# Altium footprint library Dallas Semiconductor Footprints.PcbLib: 181 footprints (part 3 of 12)
Each footprint in its own frame and in the unit in brackets; x right, y up, seen from the top. Pads: shape width x height; smd on the part's side, far side on the other; paste and mask are expansions set on the pad; w line width, h text height; cw(c..) or ccw(c..) is an arc to the next point about the centre after c.
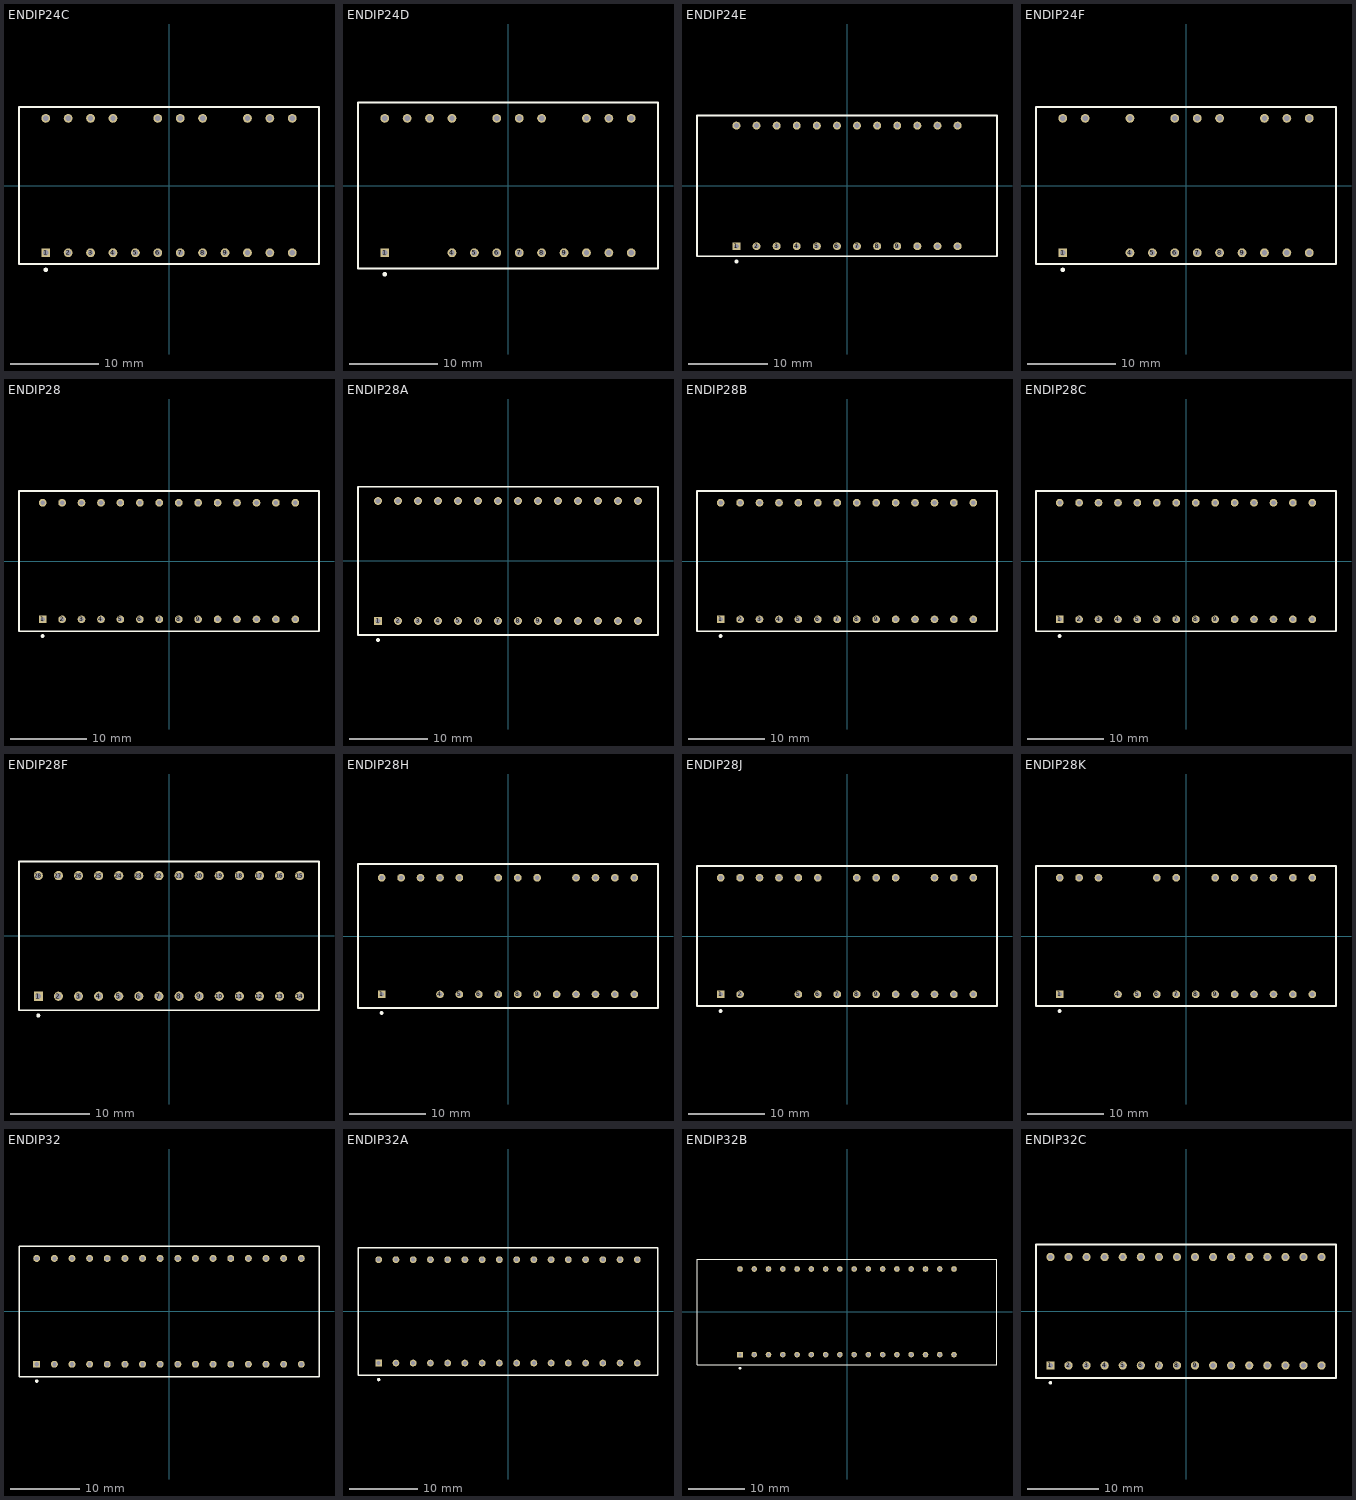
[diagram p2: the footprints below, top view; thin cyan lines are the x and y axes]

## ENDIP24C [mm] "DIP; 24 Rectangular pins (2 Absent); Row Space 15.24 mm; Pitch 2.54 mm"
height 10.13
pads (22):
  rect 1x1 hole 0.6: 1(-13.97,-7.62)
  round 1 hole 0.6: 2(-11.43,-7.62) 3(-8.89,-7.62) 4(-6.35,-7.62) 5(-3.81,-7.62) 6(-1.27,-7.62) 7(1.27,-7.62) 8(3.81,-7.62) 9(6.35,-7.62) 10(8.89,-7.62) 11(11.43,-7.62) 12(13.97,-7.62) 13(13.97,7.62) 14(11.43,7.62) 15(8.89,7.62) 17(3.81,7.62) 18(1.27,7.62) 19(-1.27,7.62) 21(-6.35,7.62) 22(-8.89,7.62) 23(-11.43,7.62) 24(-13.97,7.62)
Top Overlay:
  circle w0.25: c-13.97,-9.55 r0.125
  lines w0.25: -17,-8.9 17,-8.9 17,8.9 -17,8.9 -17,-0.635 -17,-8.9

## ENDIP24D [mm] "DIP; 24 Rectangular pins (4 Absent); Row Space 15.24 mm; Pitch 2.54 mm"
height 10.03
pads (20):
  rect 1x1 hole 0.6: 1(-13.97,-7.62)
  round 1 hole 0.6: 4(-6.35,-7.62) 5(-3.81,-7.62) 6(-1.27,-7.62) 7(1.27,-7.62) 8(3.81,-7.62) 9(6.35,-7.62) 10(8.89,-7.62) 11(11.43,-7.62) 12(13.97,-7.62) 13(13.97,7.62) 14(11.43,7.62) 15(8.89,7.62) 17(3.81,7.62) 18(1.27,7.62) 19(-1.27,7.62) 21(-6.35,7.62) 22(-8.89,7.62) 23(-11.43,7.62) 24(-13.97,7.62)
Top Overlay:
  circle w0.25: c-13.97,-10.05 r0.125
  lines w0.25: -17,-9.4 -17,-0.635 -17,9.4 17,9.4 17,-9.4 -17,-9.4

## ENDIP24E [mm] "DIP; 24 Rectangular Pins; Row Space 15.24 mm; Pitch 2.54 mm"
height 8.5
pads (24):
  rect 1x1 hole 0.6: 1(-13.97,-7.62)
  round 1 hole 0.6: 2(-11.43,-7.62) 3(-8.89,-7.62) 4(-6.35,-7.62) 5(-3.81,-7.62) 6(-1.27,-7.62) 7(1.27,-7.62) 8(3.81,-7.62) 9(6.35,-7.62) 10(8.89,-7.62) 11(11.43,-7.62) 12(13.97,-7.62) 13(13.97,7.62) 14(11.43,7.62) 15(8.89,7.62) 16(6.35,7.62) 17(3.81,7.62) 18(1.27,7.62) 19(-1.27,7.62) 20(-3.81,7.62) 21(-6.35,7.62) 22(-8.89,7.62) 23(-11.43,7.62) 24(-13.97,7.62)
Top Overlay:
  circle w0.25: c-13.97,-9.55 r0.125
  lines w0.2: -18.95,-8.9 18.95,-8.9 18.95,8.9 -18.95,8.9 -18.95,-0.635 -18.95,-8.9

## ENDIP24F [mm] "DIP; 24 Rectangular pins (5 Absent); Row Space 15.24 mm; Pitch 2.54 mm"
height 10.03
pads (19):
  rect 1x1 hole 0.6: 1(-13.97,-7.62)
  round 1 hole 0.6: 4(-6.35,-7.62) 5(-3.81,-7.62) 6(-1.27,-7.62) 7(1.27,-7.62) 8(3.81,-7.62) 9(6.35,-7.62) 10(8.89,-7.62) 11(11.43,-7.62) 12(13.97,-7.62) 13(13.97,7.62) 14(11.43,7.62) 15(8.89,7.62) 17(3.81,7.62) 18(1.27,7.62) 19(-1.27,7.62) 21(-6.35,7.62) 23(-11.43,7.62) 24(-13.97,7.62)
Top Overlay:
  circle w0.25: c-13.97,-9.55 r0.125
  lines w0.25: -17,-8.9 17,-8.9 17,8.9 -17,8.9 -17,-0.635 -17,-8.9

## ENDIP28 [mm] "DIP; 28 Rectangular Pins; Row Space 15.24 mm; Pitch 2.54 mm"
height 10.54
pads (28):
  rect 1x1 hole 0.6: 1(-16.51,-7.62)
  round 1 hole 0.6: 2(-13.97,-7.62) 3(-11.43,-7.62) 4(-8.89,-7.62) 5(-6.35,-7.62) 6(-3.81,-7.62) 7(-1.27,-7.62) 8(1.27,-7.62) 9(3.81,-7.62) 10(6.35,-7.62) 11(8.89,-7.62) 12(11.43,-7.62) 13(13.97,-7.62) 14(16.51,-7.62) 15(16.51,7.62) 16(13.97,7.62) 17(11.43,7.62) 18(8.89,7.62) 19(6.35,7.62) 20(3.81,7.62) 21(1.27,7.62) 22(-1.27,7.62) 23(-3.81,7.62) 24(-6.35,7.62) 25(-8.89,7.62) 26(-11.43,7.62) 27(-13.97,7.62) 28(-16.51,7.62)
Top Overlay:
  circle w0.25: c-16.51,-9.8 r0.125
  lines w0.2: -19.6,-9.15 19.6,-9.15 19.6,9.15 -19.6,9.15 -19.6,-0.635 -19.6,-9.15

## ENDIP28A [mm] "DIP; 28 Rectangular Pins; Row Space 15.24 mm; Pitch 2.54 mm"
height 9.52
pads (28):
  rect 1x1 hole 0.6: 1(-16.51,-7.62)
  round 1 hole 0.6: 2(-13.97,-7.62) 3(-11.43,-7.62) 4(-8.89,-7.62) 5(-6.35,-7.62) 6(-3.81,-7.62) 7(-1.27,-7.62) 8(1.27,-7.62) 9(3.81,-7.62) 10(6.35,-7.62) 11(8.89,-7.62) 12(11.43,-7.62) 13(13.97,-7.62) 14(16.51,-7.62) 15(16.51,7.62) 16(13.97,7.62) 17(11.43,7.62) 18(8.89,7.62) 19(6.35,7.62) 20(3.81,7.62) 21(1.27,7.62) 22(-1.27,7.62) 23(-3.81,7.62) 24(-6.35,7.62) 25(-8.89,7.62) 26(-11.43,7.62) 27(-13.97,7.62) 28(-16.51,7.62)
Top Overlay:
  circle w0.25: c-16.51,-10.05 r0.125
  lines w0.2: -19.05,-9.4 -19.05,-0.635 -19.05,9.4 19.05,9.4 19.05,-9.4 -19.05,-9.4

## ENDIP28B [mm] "DIP; 28 Rectangular Pins; Row Space 15.24 mm; Pitch 2.54 mm"
height 10.54
pads (28):
  rect 1x1 hole 0.6: 1(-16.51,-7.62)
  round 1 hole 0.6: 2(-13.97,-7.62) 3(-11.43,-7.62) 4(-8.89,-7.62) 5(-6.35,-7.62) 6(-3.81,-7.62) 7(-1.27,-7.62) 8(1.27,-7.62) 9(3.81,-7.62) 10(6.35,-7.62) 11(8.89,-7.62) 12(11.43,-7.62) 13(13.97,-7.62) 14(16.51,-7.62) 15(16.51,7.62) 16(13.97,7.62) 17(11.43,7.62) 18(8.89,7.62) 19(6.35,7.62) 20(3.81,7.62) 21(1.27,7.62) 22(-1.27,7.62) 23(-3.81,7.62) 24(-6.35,7.62) 25(-8.89,7.62) 26(-11.43,7.62) 27(-13.97,7.62) 28(-16.51,7.62)
Top Overlay:
  circle w0.25: c-16.51,-9.8 r0.125
  lines w0.2: -19.6,-9.15 19.6,-9.15 19.6,9.15 -19.6,9.15 -19.6,-0.635 -19.6,-9.15

## ENDIP28C [mm] "DIP; 28 Rectangular Pins; Row Space 15.24 mm; Pitch 2.54 mm"
height 10.54
pads (28):
  rect 1x1 hole 0.6: 1(-16.51,-7.62)
  round 1 hole 0.6: 2(-13.97,-7.62) 3(-11.43,-7.62) 4(-8.89,-7.62) 5(-6.35,-7.62) 6(-3.81,-7.62) 7(-1.27,-7.62) 8(1.27,-7.62) 9(3.81,-7.62) 10(6.35,-7.62) 11(8.89,-7.62) 12(11.43,-7.62) 13(13.97,-7.62) 14(16.51,-7.62) 15(16.51,7.62) 16(13.97,7.62) 17(11.43,7.62) 18(8.89,7.62) 19(6.35,7.62) 20(3.81,7.62) 21(1.27,7.62) 22(-1.27,7.62) 23(-3.81,7.62) 24(-6.35,7.62) 25(-8.89,7.62) 26(-11.43,7.62) 27(-13.97,7.62) 28(-16.51,7.62)
Top Overlay:
  circle w0.25: c-16.51,-9.8 r0.125
  lines w0.2: -19.6,-9.15 19.6,-9.15 19.6,9.15 -19.6,9.15 -19.6,-0.635 -19.6,-9.15

## ENDIP28F [mm] "DIP; 28 Rectangular Pins; Row Space 15.24 mm; Pitch 2.54 mm"
height 9.27
pads (28):
  rect 1.15x1.15 hole 0.7: 1(-16.51,-7.62)
  round 1.15 hole 0.7: 2(-13.97,-7.62) 3(-11.43,-7.62) 4(-8.89,-7.62) 5(-6.35,-7.62) 6(-3.81,-7.62) 7(-1.27,-7.62) 8(1.27,-7.62) 9(3.81,-7.62) 10(6.35,-7.62) 11(8.89,-7.62) 12(11.43,-7.62) 13(13.97,-7.62) 14(16.51,-7.62) 15(16.51,7.62) 16(13.97,7.62) 17(11.43,7.62) 18(8.89,7.62) 19(6.35,7.62) 20(3.81,7.62) 21(1.27,7.62) 22(-1.27,7.62) 23(-3.81,7.62) 24(-6.35,7.62) 25(-8.89,7.62) 26(-11.43,7.62) 27(-13.97,7.62) 28(-16.51,7.62)
Top Overlay:
  circle w0.25: c-16.51,-10.05 r0.125
  lines w0.2: -18.95,-9.4 18.95,-9.4 18.95,9.4 -18.95,9.4 -18.95,-0.635 -18.95,-9.4

## ENDIP28H [mm] "DIP; 28 Rectangular pins (4 Absent); Row Space 15.24 mm; Pitch 2.54 mm"
height 10.15
pads (24):
  rect 1x1 hole 0.6: 1(-16.51,-7.62)
  round 1 hole 0.6: 4(-8.89,-7.62) 5(-6.35,-7.62) 6(-3.81,-7.62) 7(-1.27,-7.62) 8(1.27,-7.62) 9(3.81,-7.62) 10(6.35,-7.62) 11(8.89,-7.62) 12(11.43,-7.62) 13(13.97,-7.62) 14(16.51,-7.62) 15(16.51,7.62) 16(13.97,7.62) 17(11.43,7.62) 18(8.89,7.62) 20(3.81,7.62) 21(1.27,7.62) 22(-1.27,7.62) 24(-6.35,7.62) 25(-8.89,7.62) 26(-11.43,7.62) 27(-13.97,7.62) 28(-16.51,7.62)
Top Overlay:
  circle w0.25: c-16.51,-10.05 r0.125
  lines w0.25: -19.6,-9.4 19.6,-9.4 19.6,9.4 -19.6,9.4 -19.6,-0.635 -19.6,-9.4

## ENDIP28J [mm] "DIP; 28 Rectangular pins (4 Absent); Row Space 15.24 mm; Pitch 2.54 mm"
height 10.15
pads (24):
  rect 1x1 hole 0.6: 1(-16.51,-7.62)
  round 1 hole 0.6: 2(-13.97,-7.62) 5(-6.35,-7.62) 6(-3.81,-7.62) 7(-1.27,-7.62) 8(1.27,-7.62) 9(3.81,-7.62) 10(6.35,-7.62) 11(8.89,-7.62) 12(11.43,-7.62) 13(13.97,-7.62) 14(16.51,-7.62) 15(16.51,7.62) 16(13.97,7.62) 17(11.43,7.62) 19(6.35,7.62) 20(3.81,7.62) 21(1.27,7.62) 23(-3.81,7.62) 24(-6.35,7.62) 25(-8.89,7.62) 26(-11.43,7.62) 27(-13.97,7.62) 28(-16.51,7.62)
Top Overlay:
  circle w0.25: c-16.51,-9.8 r0.125
  lines w0.25: -19.6,-9.15 19.6,-9.15 19.6,9.15 -19.6,9.15 -19.6,-0.635 -19.6,-9.15

## ENDIP28K [mm] "DIP; 28 Rectangular pins (5 Absent); Row Space 15.24 mm; Pitch 2.54 mm"
height 10.15
pads (23):
  rect 1x1 hole 0.6: 1(-16.51,-7.62)
  round 1 hole 0.6: 4(-8.89,-7.62) 5(-6.35,-7.62) 6(-3.81,-7.62) 7(-1.27,-7.62) 8(1.27,-7.62) 9(3.81,-7.62) 10(6.35,-7.62) 11(8.89,-7.62) 12(11.43,-7.62) 13(13.97,-7.62) 14(16.51,-7.62) 15(16.51,7.62) 16(13.97,7.62) 17(11.43,7.62) 18(8.89,7.62) 19(6.35,7.62) 20(3.81,7.62) 22(-1.27,7.62) 23(-3.81,7.62) 26(-11.43,7.62) 27(-13.97,7.62) 28(-16.51,7.62)
Top Overlay:
  circle w0.25: c-16.51,-9.8 r0.125
  lines w0.25: -19.6,-9.15 -19.6,-0.635 -19.6,9.15 19.6,9.15 19.6,-9.15 -19.6,-9.15

## ENDIP32 [mm] "DIP; 32 Rectangular Pins; Row Space 15.24 mm; Pitch 2.54 mm"
height 9.52
pads (32):
  rect 1x1 hole 0.6: 1(-19.05,-7.62)
  round 1 hole 0.6: 2(-16.51,-7.62) 3(-13.97,-7.62) 4(-11.43,-7.62) 5(-8.89,-7.62) 6(-6.35,-7.62) 7(-3.81,-7.62) 8(-1.27,-7.62) 9(1.27,-7.62) 10(3.81,-7.62) 11(6.35,-7.62) 12(8.89,-7.62) 13(11.43,-7.62) 14(13.97,-7.62) 15(16.51,-7.62) 16(19.05,-7.62) 17(19.05,7.62) 18(16.51,7.62) 19(13.97,7.62) 20(11.43,7.62) 21(8.89,7.62) 22(6.35,7.62) 23(3.81,7.62) 24(1.27,7.62) 25(-1.27,7.62) 26(-3.81,7.62) 27(-6.35,7.62) 28(-8.89,7.62) 29(-11.43,7.62) 30(-13.97,7.62) 31(-16.51,7.62) 32(-19.05,7.62)
Top Overlay:
  circle w0.25: c-19.05,-10.05 r0.125
  lines w0.2: -21.6,-9.4 21.6,-9.4 21.6,9.4 -21.6,9.4 -21.6,-0.635 -21.6,-9.4

## ENDIP32A [mm] "DIP; 32 Rectangular Pins; Row Space 15.24 mm; Pitch 2.54 mm"
height 10.54
pads (32):
  rect 1x1 hole 0.6: 1(-19.05,-7.62)
  round 1 hole 0.6: 2(-16.51,-7.62) 3(-13.97,-7.62) 4(-11.43,-7.62) 5(-8.89,-7.62) 6(-6.35,-7.62) 7(-3.81,-7.62) 8(-1.27,-7.62) 9(1.27,-7.62) 10(3.81,-7.62) 11(6.35,-7.62) 12(8.89,-7.62) 13(11.43,-7.62) 14(13.97,-7.62) 15(16.51,-7.62) 16(19.05,-7.62) 17(19.05,7.62) 18(16.51,7.62) 19(13.97,7.62) 20(11.43,7.62) 21(8.89,7.62) 22(6.35,7.62) 23(3.81,7.62) 24(1.27,7.62) 25(-1.27,7.62) 26(-3.81,7.62) 27(-6.35,7.62) 28(-8.89,7.62) 29(-11.43,7.62) 30(-13.97,7.62) 31(-16.51,7.62) 32(-19.05,7.62)
Top Overlay:
  circle w0.25: c-19.05,-10.05 r0.125
  lines w0.2: -22.1,-9.4 -22.1,-0.635 -22.1,9.4 22.1,9.4 22.1,-9.4 -22.1,-9.4

## ENDIP32B [mm] "DIP; 32 Rectangular Pins; Row Space 15.24 mm; Pitch 2.54 mm"
height 10.29
pads (32):
  rect 1x1 hole 0.6: 1(-19.05,-7.62)
  round 1 hole 0.6: 2(-16.51,-7.62) 3(-13.97,-7.62) 4(-11.43,-7.62) 5(-8.89,-7.62) 6(-6.35,-7.62) 7(-3.81,-7.62) 8(-1.27,-7.62) 9(1.27,-7.62) 10(3.81,-7.62) 11(6.35,-7.62) 12(8.89,-7.62) 13(11.43,-7.62) 14(13.97,-7.62) 15(16.51,-7.62) 16(19.05,-7.62) 17(19.05,7.62) 18(16.51,7.62) 19(13.97,7.62) 20(11.43,7.62) 21(8.89,7.62) 22(6.35,7.62) 23(3.81,7.62) 24(1.27,7.62) 25(-1.27,7.62) 26(-3.81,7.62) 27(-6.35,7.62) 28(-8.89,7.62) 29(-11.43,7.62) 30(-13.97,7.62) 31(-16.51,7.62) 32(-19.05,7.62)
Top Overlay:
  circle w0.25: c-19.05,-10.05 r0.125
  lines w0.2: -26.7,-9.4 26.7,-9.4 26.7,9.4 -26.7,9.4 -26.7,-0.635 -26.7,-9.4

## ENDIP32C [mm] "DIP; 32 Rectangular Pins; Row Space 15.24 mm; Pitch 2.54 mm"
height 9.27
pads (32):
  rect 1.15x1.15 hole 0.7: 1(-19.05,-7.62)
  round 1.15 hole 0.7: 2(-16.51,-7.62) 3(-13.97,-7.62) 4(-11.43,-7.62) 5(-8.89,-7.62) 6(-6.35,-7.62) 7(-3.81,-7.62) 8(-1.27,-7.62) 9(1.27,-7.62) 10(3.81,-7.62) 11(6.35,-7.62) 12(8.89,-7.62) 13(11.43,-7.62) 14(13.97,-7.62) 15(16.51,-7.62) 16(19.05,-7.62) 17(19.05,7.62) 18(16.51,7.62) 19(13.97,7.62) 20(11.43,7.62) 21(8.89,7.62) 22(6.35,7.62) 23(3.81,7.62) 24(1.27,7.62) 25(-1.27,7.62) 26(-3.81,7.62) 27(-6.35,7.62) 28(-8.89,7.62) 29(-11.43,7.62) 30(-13.97,7.62) 31(-16.51,7.62) 32(-19.05,7.62)
Top Overlay:
  circle w0.25: c-19.05,-10.05 r0.125
  lines w0.25: -21.082,-9.4 -21.082,-0.508 -21.082,9.4 21.082,9.4 21.082,-9.4 -21.082,-9.4